# EAGLE library part PSOC_44 (library Lysenko_Eagle_Lib)
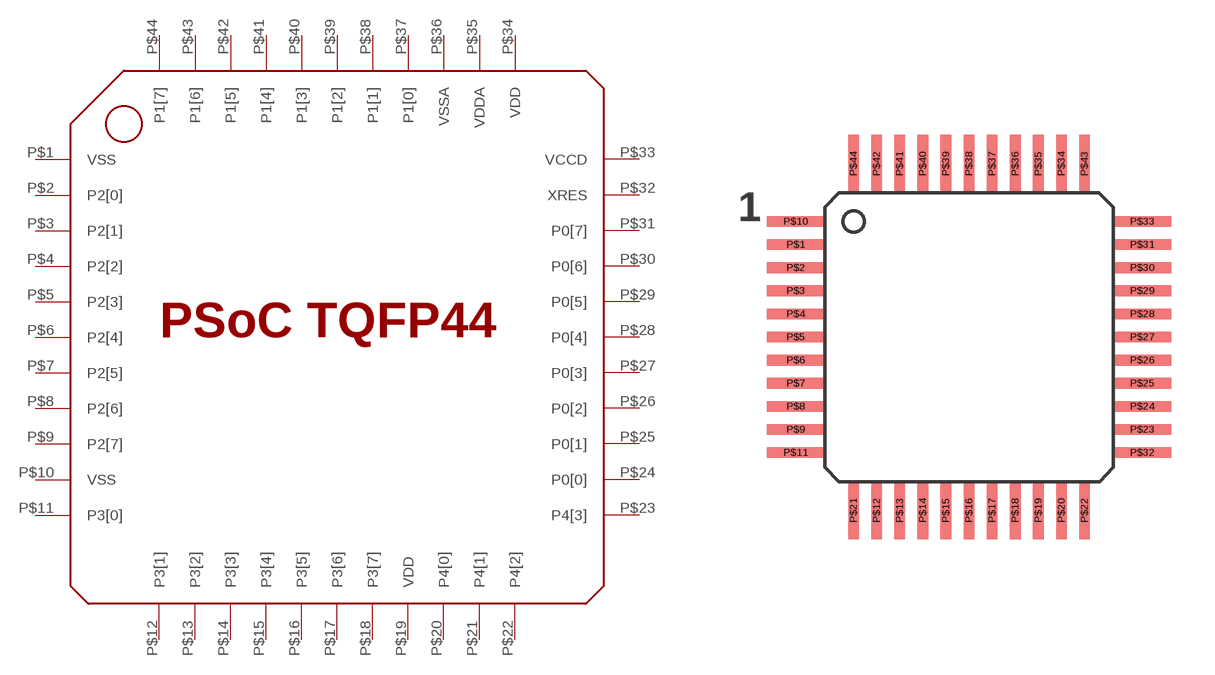
[diagram p0: symbol with the pads of PSOC_44; footprint PSOC_44]

Designator prefix -

## PSOC_44  [PSOC_44]
P$1  VSS
P$2  P2[0]
P$3  P2[1]
P$4  P2[2]
P$5  P2[3]
P$6  P2[4]
P$7  P2[5]
P$8  P2[6]
P$9  P2[7]
P$10  VSS
P$11  P3[0]
P$12  P3[1]
P$13  P3[2]
P$14  P3[3]
P$15  P3[4]
P$16  P3[5]
P$17  P3[6]
P$18  P3[7]
P$19  VDD
P$20  P4[0]
P$21  P4[1]
P$22  P4[2]
P$23  P4[3]
P$24  P0[0]
P$25  P0[1]
P$26  P0[2]
P$27  P0[3]
P$28  P0[4]
P$29  P0[5]
P$30  P0[6]
P$31  P0[7]
P$32  XRES
P$33  VCCD
P$34  VDD
P$35  VDDA
P$36  VSSA
P$37  P1[0]
P$38  P1[1]
P$39  P1[2]
P$40  P1[3]
P$41  P1[4]
P$42  P1[5]
P$43  P1[6]
P$44  P1[7]

## Footprint PSOC_44 (pad centres in mm)
smd 2 x 0.37: P$1 -1,8.2; P$2 -1,7.4; P$3 -1,6.6; P$4 -1,5.8; P$5 -1,5; P$6 -1,4.2; P$7 -1,3.4; P$8 -1,2.6; P$9 -1,1.8; P$10 -1,9; P$11 -1,1; P$23 11,1.8; P$24 11,2.6; P$25 11,3.4; P$26 11,4.2; P$27 11,5; P$28 11,5.8; P$29 11,6.6; P$30 11,7.4; P$31 11,8.2; P$32 11,1; P$33 11,9
smd 0.37 x 2: P$12 1.8,-1; P$13 2.6,-1; P$14 3.4,-1; P$15 4.2,-1; P$16 5,-1; P$17 5.8,-1; P$18 6.6,-1; P$19 7.4,-1; P$20 8.2,-1; P$21 1,-1; P$22 9,-1; P$34 8.2,11; P$35 7.4,11; P$36 6.6,11; P$37 5.8,11; P$38 5,11; P$39 4.2,11; P$40 3.4,11; P$41 2.6,11; P$42 1.8,11; P$43 9,11; P$44 1,11